# Altium footprint library SC_PDIP4.PcbLib: 1 footprints
Each footprint in its own frame and in the unit in brackets; x right, y up, seen from the top. Pads: shape width x height; smd on the part's side, far side on the other; paste and mask are expansions set on the pad; w line width, h text height; cw(c..) or ccw(c..) is an arc to the next point about the centre after c.
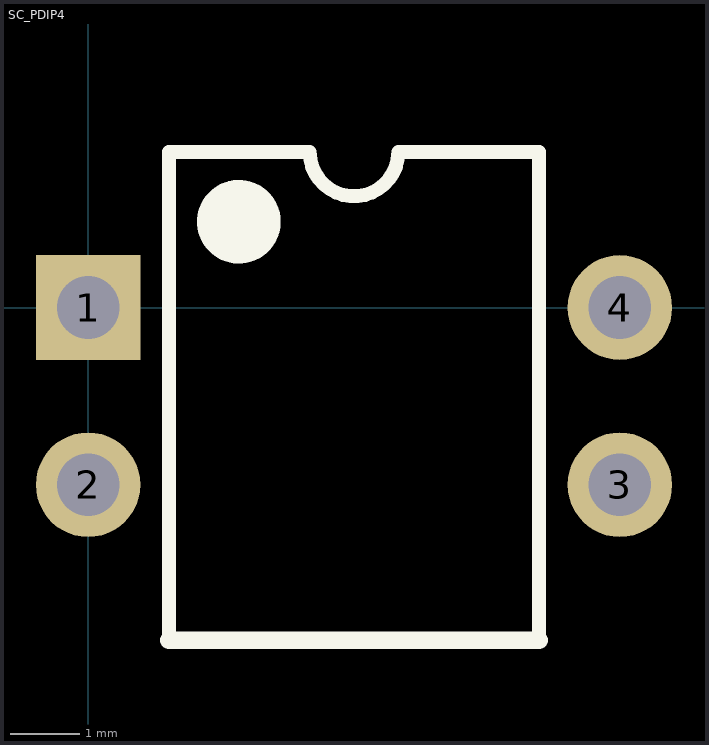
[diagram p0: the footprint, top view; thin cyan lines are the x and y axes]

## SC_PDIP4 [mm] "DIP, 4-Leads, Row Spacing 7.62mm, Pitch 2.54mm"
height 5.08
pads (4):
  rect 1.5x1.5 hole 0.9: 1(0,0)
  round 1.5 hole 0.9: 2(0,-2.54) 3(7.62,-2.54) 4(7.62,0)
Top Overlay:
  circle w0.6: c2.16,1.23 r0.3
  lines w0.2: 1.16,-4.77 1.16,2.23 3.175,2.23 ccw(c3.81,2.23) 4.445,2.23 6.46,2.23 6.46,-4.77
  lines w0.254: 1.16,-4.77 6.46,-4.77